# Altium footprint library v-reg.PCBLIB: 52 footprints (part 2 of 4)
Each footprint in its own frame and in the unit in brackets; x right, y up, seen from the top. Pads: shape width x height; smd on the part's side, far side on the other; paste and mask are expansions set on the pad; w line width, h text height; cw(c..) or ccw(c..) is an arc to the next point about the centre after c.
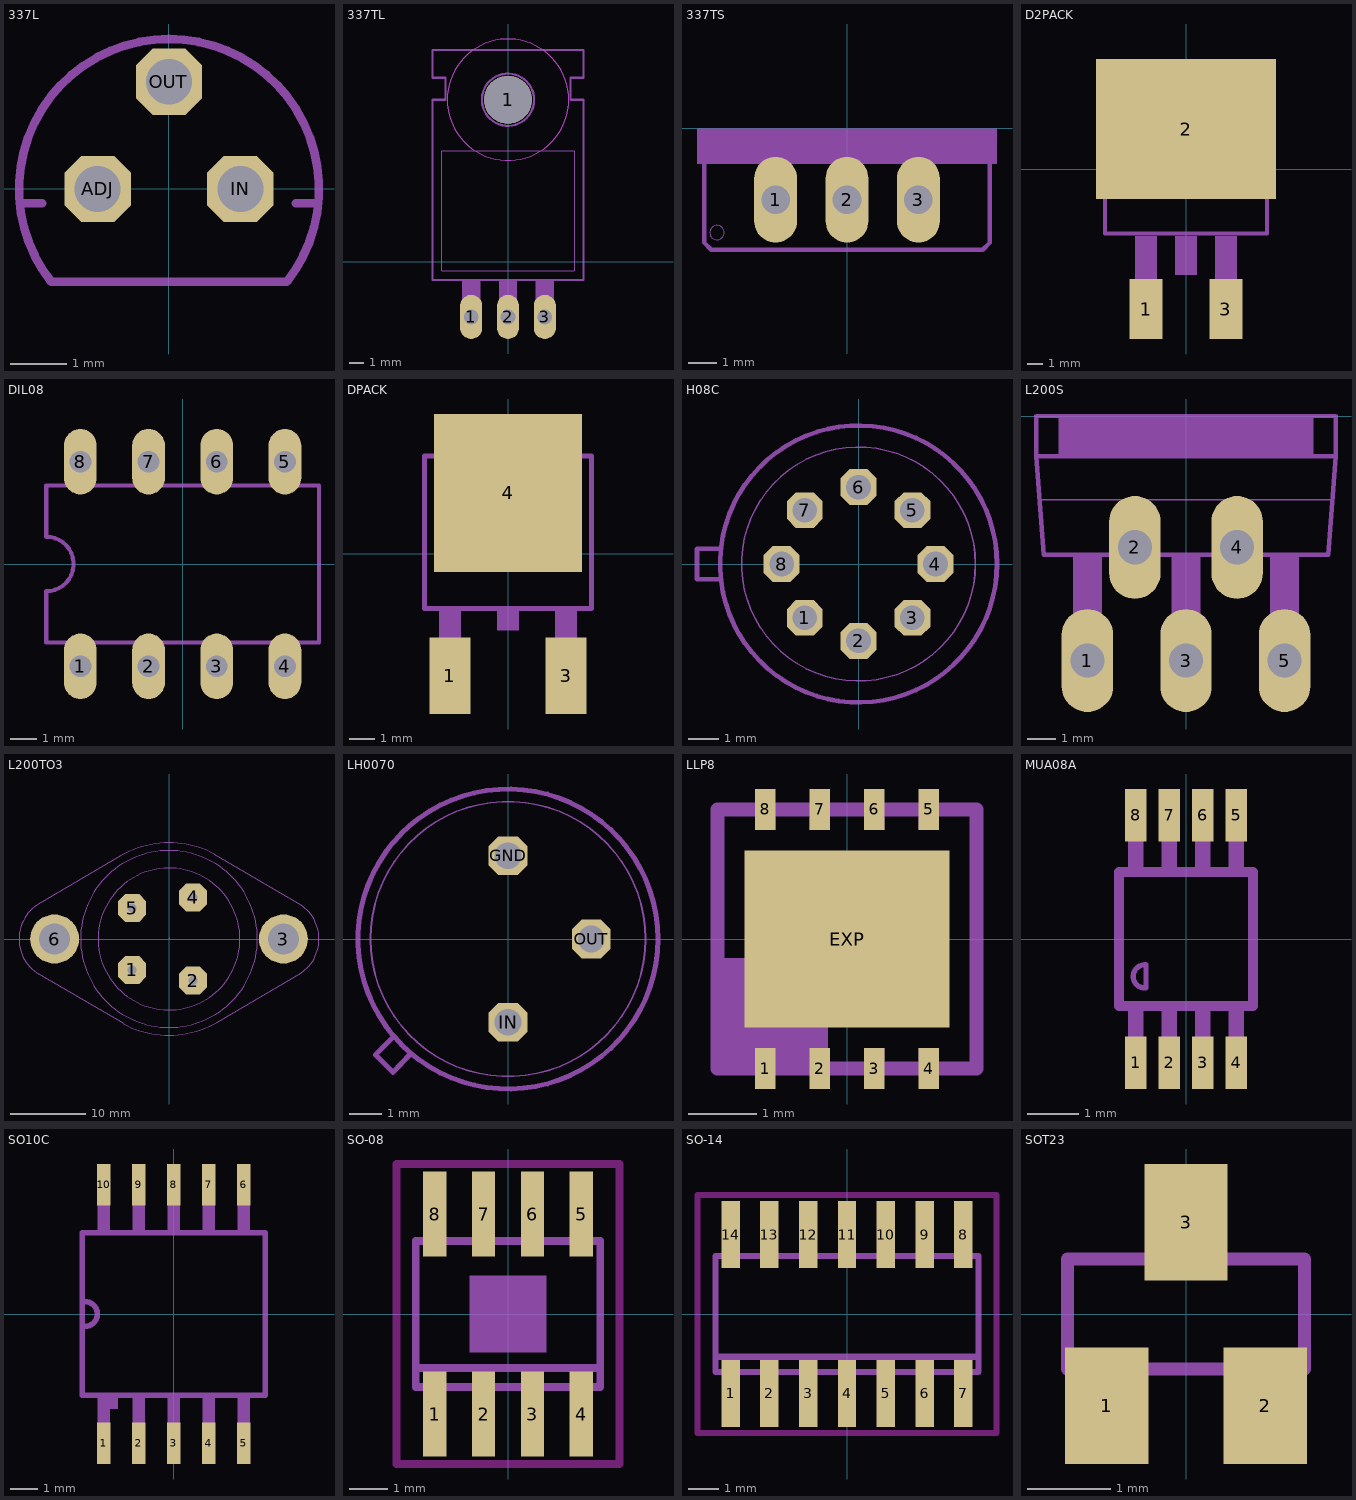
[diagram p1: the footprints below, top view; thin cyan lines are the x and y axes]

## 337L [mil]
pads (3):
  oct 46.48x46.48 hole 32: ADJ(-50,0) IN(50,0) OUT(0,75)
Mechanical 2:
  lines w6: -104.53,-10 -88.74,-10 ; -82.48,-65 82.48,-65 ccw(c0.02,0) 30.98,100.33 ; -82.46,-65 cw(c0,0) -30.96,100.33 ; 88.74,-10 104.53,-10
Mechanical 18:
  lines w6: -30.96,100.33 cw(c0,-0.02) 30.96,100.33

## 337TL [mil]
pads (4):
  oval 60x120 hole 40: 1(-100,-150) 2(0,-150) 3(100,-150)
  round 130 hole 130: 1(0,440)
Mechanical 2:
  circle w6: c0,440 r71
  rectangle: 75,-85 125,-50
  rectangle: -25,-85 25,-50
  rectangle: -125,-85 -75,-50
  lines w2: -180,-25 180,-25 180,300 -180,300 -180,-25
  lines w6: -205,-50 205,-50 205,440 170,440 170,500 205,500 205,575 -205,575 -205,500 -170,500 -170,440 -205,440 -205,-50
Mechanical 11 keep-out:
  circle w0: c0,440 r165
Mechanical 12:
  circle w0: c0,440 r165
Mechanical 18:
  rectangle: 75,-150 125,-85
  rectangle: -25,-150 25,-85
  rectangle: -125,-150 -75,-85

## 337TS [mil]
pads (3):
  oval 60x120 hole 40: 1(-100,-100) 2(0,-100) 3(100,-100)
Mechanical 2:
  circle w0: c-182,-146 r10
  rectangle: -210,-50 -135,0
  rectangle: -135,-30 -65,0
  rectangle: -65,-50 -35,0
  rectangle: -35,-30 35,0
  rectangle: 35,-50 65,0
  rectangle: 65,-30 135,0
  rectangle: 135,-50 210,0
  lines w6: -200,-45 -200,-160 -190,-170 190,-170 200,-160 200,-45
Mechanical 18:
  rectangle: -135,-50 -65,-30
  rectangle: -35,-50 35,-30
  rectangle: 65,-50 135,-30

## D2PACK [mil]
pads (3):
  rect 82x150 smd: 1(-100,-350) 3(100,-350)
  rect 450x350 smd: 2(0,100)
Mechanical 2:
  rectangle: -128,-265 -72,-167
  rectangle: 72,-265 128,-167
  rectangle: -28,-265 28,-167
  lines w10: -202,-91 -202,-161 202,-161 202,-91
Mechanical 18:
  rectangle: -122,-375 -78,-319
  rectangle: -128,-321 -72,-265
  rectangle: 78,-375 122,-319
  rectangle: 72,-321 128,-265
  lines w10: -202,-161 -202,175 ; 202,-161 202,175 ; -202,175 -202,185 -133,229 123,229 202,175 ; -202,175 202,175

## DIL08 [mil]
pads (8):
  oval 48x96 hole 32: 1(-150,-150) 2(-50,-150) 3(50,-150) 4(150,-150) 5(150,150) 6(50,150) 7(-50,150) 8(-150,150)
Mechanical 2:
  lines w6: -200,-115 200,-115 200,115 -200,115 -200,40 cw(c-200,0) -200,-40 -200,-115

## DPACK [mm]
pads (3):
  rect 1.6x3 smd: 1(-2.28,-4.8) 3(2.28,-4.8)
  rect 5.8x6.2 smd: 4(0,2.38)
Mechanical 2:
  rectangle: -0.432,-3.023 0.432,-2.261
  lines w0.203: -3.277,3.835 -3.277,-2.159 3.277,-2.159 3.277,3.835
Mechanical 18:
  rectangle: -2.718,-5.156 -1.854,-2.261
  rectangle: 1.854,-5.156 2.718,-2.261
  region: 0,0 0.254,0 0.254,0.254 0,0.254
  lines w0.203: -3.277,3.835 3.277,3.835 ; -2.565,3.937 -2.565,4.648 -2.108,5.105 2.108,5.105 2.565,4.648 2.565,3.937 -2.565,3.937

## H08C [mil]
pads (8):
  oct 46.48x46.48 hole 32: 1(-70,-70) 2(0,-100) 3(70,-70) 4(100,0) 5(70,70) 6(0,100) 7(-70,70) 8(-100,0)
Mechanical 2:
  circle w6: c0,0 r180
  circle w2: c0,0 r152
  lines w6: -180,-20 -210,-20 -210,20 -180,20

## L200S [mil]
pads (5):
  oval 70.5x141 hole 47: 1(-135,-335) 2(-70,-180) 3(0,-335) 4(70,-180) 5(135,-335)
Mechanical 2:
  rectangle: -175,-55 175,0
  rectangle: 115,-290 155,-190
  rectangle: -20,-290 20,-190
  rectangle: -155,-290 -115,-190
  lines w2: -200,-115 200,-115
  lines w6: -115,-190 -195,-190 -205,-55 ; -25,-190 25,-190 ; 115,-190 195,-190 205,-55 ; -205,-55 -205,0 205,0 205,-55 ; -205,-55 205,-55
Mechanical 18:
  rectangle: 115,-335 155,-290
  rectangle: -20,-335 20,-290
  rectangle: -155,-335 -115,-290
  lines w6: -115,-190 -25,-190 ; 25,-190 115,-190

## L200TO3 [mil]
pads (6):
  oct 145.24x145.24 hole 47: 1(-191.51,-160.7) 2(125,-216.51) 4(125,216.51) 5(-191.51,160.7)
  round 255 hole 162: 3(595,0) 6(-595,0)
Mechanical 2:
  circle w6: c0,0 r369
  circle w2: c0,0 r460
  lines w0.04: 0,0 3.17,5.5
  lines w6: -680,180 -250,433 ; -679,-181 -234,-442 ; -675.41,-183.35 cw(c-567,0) -780,0 cw(c-567,0) -672.94,184.78 ; -250.86,432.52 cw(c-0.01,0) 0,500 cw(c0.01,-0.01) 235.3,441.18 ; -235.3,-441.18 ccw(c-0.01,0.01) 0,-500 ccw(c0.01,0) 250.86,-432.52 ; 235,441 684,178 ; 251,-433 684,-178 ; 682.54,-178.94 ccw(c567,0) 780,0 ccw(c567,0) 682.54,178.94
Mechanical 18:
  circle w6: c595,0 r85
  circle w6: c-595,0 r85

## LH0070 [mil]
pads (3):
  oct 46.48x46.48 hole 32: GND(0,100) IN(0,-100) OUT(100,0)
Mechanical 2:
  circle w6: c0,0 r180
  circle w2: c0,0 r165
  lines w6: -137,-117 -159,-139 -138,-160 -117,-138

## LLP8 [mm]
pads (9):
  rect 0.3x0.6 smd: 1(-1.2,-1.9) 2(-0.4,-1.9) 3(0.4,-1.9) 4(1.2,-1.9) 5(1.2,1.9) 6(0.4,1.9) 7(-0.4,1.9) 8(-1.2,1.9)
  rect 3x2.6 smd: EXP(0,0)
Mechanical 2:
  lines w0.203: -1.7,1.9 -1.9,1.9 -1.9,-1.9 -1.575,-1.9 ; 1.7,-1.9 1.9,-1.9 1.9,1.9 1.7,1.9
Mechanical 18:
  rectangle: -1.875,-1.9 -0.275,-0.275
  rectangle: -0.55,-2 -0.25,-1.6
  rectangle: 0.25,-2 0.55,-1.6
  rectangle: 1.05,-2 1.35,-1.6
  region: 1.35,2 1.05,2 1.05,1.6 1.35,1.6
  region: 0.55,2 0.25,2 0.25,1.6 0.55,1.6
  region: -0.25,2 -0.55,2 -0.55,1.6 -0.25,1.6
  region: -1.05,2 -1.35,2 -1.35,1.6 -1.05,1.6
  lines w0.203: -1.9,-1.9 1.9,-1.9 ; -1.9,1.9 1.9,1.9

## MUA08A [mil]
pads (8):
  rect 16.14x40.16 smd: 1(-38.39,-94.49) 2(-12.8,-94.49) 3(12.8,-94.49) 4(38.39,-94.49) 5(38.39,94.49) 6(12.8,94.49) 7(-12.8,94.49) 8(-38.39,94.49)
Mechanical 2:
  lines w4: -31.5,-37.4 cw(c-31.5,-28.55) -31.5,-19.69 ; -30.51,-37.4 -30.51,-19.69
  lines w8: -51.18,-51.18 51.18,-51.18 51.18,51.18 -51.18,51.18 -51.18,-51.18
Mechanical 18:
  rectangle: -44.29,-96.46 -32.48,-54.13
  rectangle: -18.7,-96.46 -6.89,-54.13
  rectangle: 6.89,-96.46 18.7,-54.13
  rectangle: 32.48,-96.46 44.29,-54.13
  region: 44.29,96.46 32.48,96.46 32.48,54.13 44.29,54.13
  region: 18.7,96.46 6.89,96.46 6.89,54.13 18.7,54.13
  region: -6.89,96.46 -18.7,96.46 -18.7,54.13 -6.89,54.13
  region: -32.48,96.46 -44.29,96.46 -44.29,54.13 -32.48,54.13

## SO10C [mil]
pads (10):
  rect 19.69x59.06 smd: 1(-100,-184.84) 2(-50,-184.84) 3(0,-184.84) 4(50,-184.84) 5(100,-184.84) 6(100,184.84) 7(50,184.84) 8(0,184.84) 9(-50,184.84) 10(-100,184.84)
Mechanical 2:
  lines w8: -126.97,-17.72 ccw(c-126.97,0) -126.97,17.72 ; -130.91,-116.14 130.91,-116.14 130.91,116.14 -130.91,116.14 -130.91,-116.14
Mechanical 18:
  rectangle: -108.86,-204.72 -91.14,-119.09
  rectangle: -58.86,-204.72 -41.14,-119.09
  rectangle: -8.86,-204.72 8.86,-119.09
  rectangle: 41.14,-204.72 58.86,-119.09
  rectangle: 91.14,-204.72 108.86,-119.09
  region: 108.86,204.72 91.14,204.72 91.14,119.09 108.86,119.09
  region: 58.86,204.72 41.14,204.72 41.14,119.09 58.86,119.09
  region: 8.86,204.72 -8.86,204.72 -8.86,119.09 8.86,119.09
  region: -41.14,204.72 -58.86,204.72 -58.86,119.09 -41.14,119.09
  region: -91.14,204.72 -108.86,204.72 -108.86,119.09 -91.14,119.09
  rectangle: -95.47,-135.83 -79.72,-119.09

## SO-08 [mil]
pads (8):
  rect 23.62x86.61 smd: 1(-75,-102.36) 2(-25,-102.36) 3(25,-102.36) 4(75,-102.36) 5(75,102.36) 6(25,102.36) 7(-25,102.36) 8(-75,102.36)
Keep-Out Layer:
  lines w7.87: -114.17,-153.54 114.17,-153.54 114.17,153.54 -114.17,153.54 -114.17,-153.54
Mechanical 8:
  rectangle: -39.37,-39.37 39.37,39.37
Mechanical 18:
  rectangle: -84.65,-122.05 -65.35,-78.74
  rectangle: -34.65,-122.05 -15.35,-78.74
  rectangle: 15.35,-122.05 34.65,-78.74
  rectangle: 65.35,-122.05 84.65,-78.74
  rectangle: 65.35,78.74 84.65,122.05
  rectangle: 15.35,78.74 34.65,122.05
  rectangle: -34.65,78.74 -15.35,122.05
  rectangle: -84.65,78.74 -65.35,122.05
  lines w8: -94.49,-55.12 -94.49,-74.8 94.49,-74.8 94.49,-55.12 ; -94.49,-55.12 -94.49,74.8 94.49,74.8 94.49,-55.12 ; -94.49,-55.12 94.49,-55.12

## SO-14 [mil]
pads (14):
  rect 23.62x86.61 smd: 1(-150,-102.36) 2(-100,-102.36) 3(-50,-102.36) 4(0,-102.36) 5(50,-102.36) 6(100,-102.36) 7(150,-102.36) 8(150,102.36) 9(100,102.36) 10(50,102.36) 11(0,102.36) 12(-50,102.36) 13(-100,102.36) 14(-150,102.36)
Keep-Out Layer:
  lines w7.87: -192.72,-153.54 192.72,-153.54 192.72,153.54 -192.72,153.54 -192.72,-153.54
Mechanical 18:
  rectangle: -159.65,-122.05 -140.35,-78.74
  rectangle: -109.65,-122.05 -90.35,-78.74
  rectangle: -59.65,-122.05 -40.35,-78.74
  rectangle: -9.65,-122.05 9.65,-78.74
  rectangle: -9.65,78.74 9.65,122.05
  rectangle: -59.65,78.74 -40.35,122.05
  rectangle: -109.65,78.74 -90.35,122.05
  rectangle: -159.65,78.74 -140.35,122.05
  rectangle: 40.35,-122.05 59.65,-78.74
  rectangle: 90.35,-122.05 109.65,-78.74
  rectangle: 140.35,-122.05 159.65,-78.74
  rectangle: 140.35,78.74 159.65,122.05
  rectangle: 90.35,78.74 109.65,122.05
  rectangle: 40.35,78.74 59.65,122.05
  lines w8: -169.49,-55.12 -169.49,-74.8 169.49,-74.8 169.49,-55.12 ; -169.49,-55.12 -169.49,74.8 169.49,74.8 169.49,-55.12 ; -169.49,-55.12 169.49,-55.12

## SOT23 [mm]
pads (3):
  rect 1x1.4 smd: 1(-0.95,-1.1) 2(0.95,-1.1) 3(0,1.1)
Mechanical 18:
  rectangle: -0.229,0.711 0.229,1.295
  rectangle: 0.711,-1.295 1.168,-0.711
  rectangle: -1.168,-1.295 -0.711,-0.711
  lines w0.152: -1.422,-0.66 1.422,-0.66 1.422,0.66 -1.422,0.66 -1.422,-0.66